# EAGLE library part LTC3538 (library SSI)
Buck-boost converter
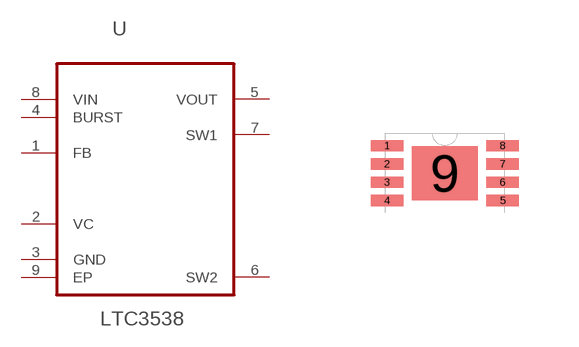
[diagram p23: symbol with the pads of DFN_200X300_9PADS; footprint DFN_200X300_9PADS]

Designator prefix -

## LTC3538  [DFN_200X300_9PADS]
1  FB  in
2  VC  in
3  GND  pas
4  BURST  in
5  VOUT  out
6  SW2  in
7  SW1  in
8  VIN  pwr
9  EP  pas

## Footprint DFN_200X300_9PADS (pad centres in mm)
smd 0.813 x 0.279: 1 -1.448,0.686; 2 -1.448,0.229; 3 -1.448,-0.229; 4 -1.448,-0.686; 5 1.448,-0.686; 6 1.448,-0.229; 7 1.448,0.229; 8 1.448,0.686
smd 1.651 x 1.346: 9 0,0